# Altium footprint library LP_ECG-X02.PcbLib: 49 footprints (part 2 of 4)
Each footprint in its own frame and in the unit in brackets; x right, y up, seen from the top. Pads: shape width x height; smd on the part's side, far side on the other; paste and mask are expansions set on the pad; w line width, h text height; cw(c..) or ccw(c..) is an arc to the next point about the centre after c.
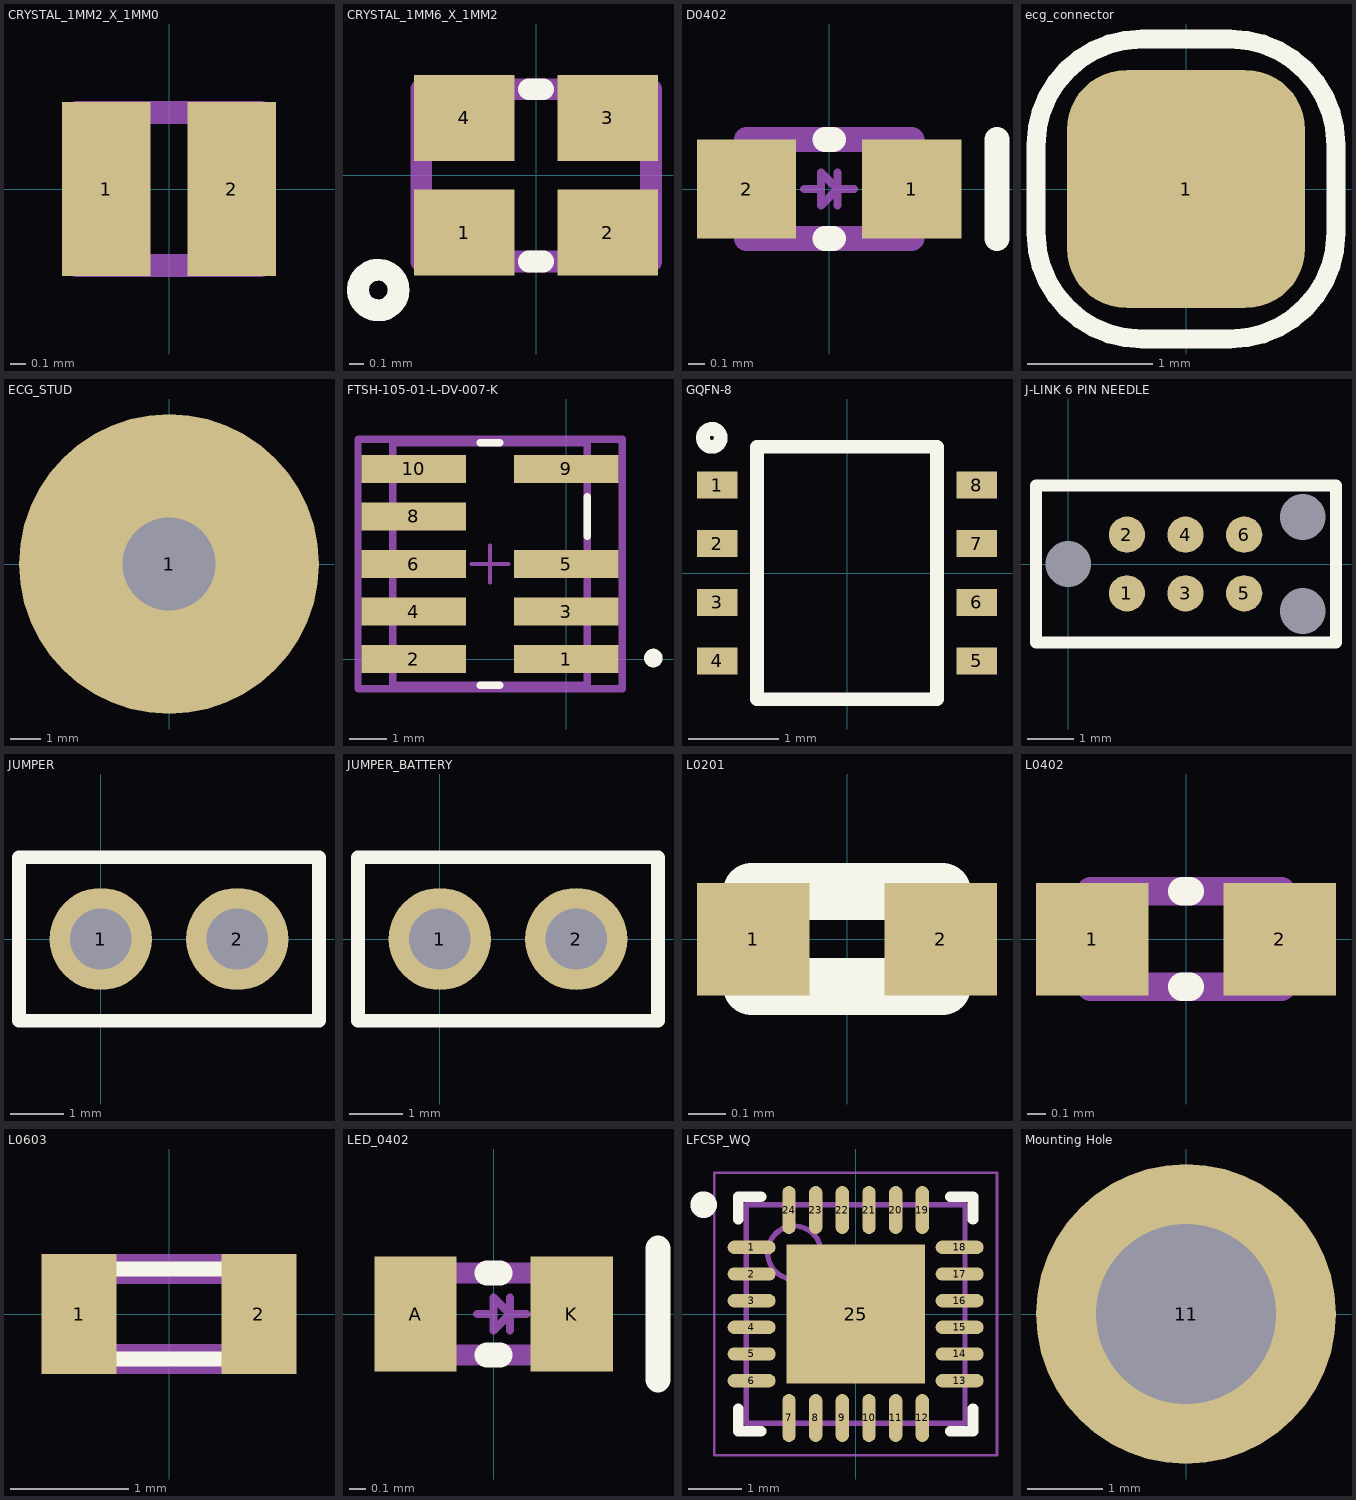
[diagram p1: the footprints below, top view; thin cyan lines are the x and y axes]

## CRYSTAL_1MM2_X_1MM0 [mm] "Crystal 1.2 x 1.0 x 0.35mm"
pads (2):
  rect 0.575x1.14 smd paste-0.5 mask+0.06: 1(-0.41,0) 2(0.41,0)
Mechanical 3:
  lines w0.152: -0.6,-0.5 0.6,-0.5 0.6,0.5 -0.6,0.5 -0.6,-0.5
3D body: height 0.35, standoff 0, extent -0.6,-0.5 0.6,0.5

## CRYSTAL_1MM6_X_1MM2 [mm] "1.6 x 1.2 x 0.35mm 4-pin crystal"
pads (4):
  rect 0.7x0.6 smd mask+0.036: 1(-0.5,-0.4) 2(0.5,-0.4) 3(0.5,0.4) 4(-0.5,0.4)
Top Overlay:
  circle w0.152: c-1.1,-0.8 r0.141
  lines w0.152: -0.05,-0.6 0.05,-0.6 ; -0.05,0.6 0.05,0.6
Mechanical 3:
  lines w0.152: -0.8,-0.6 -0.8,0.6 0.8,0.6 0.8,-0.6 -0.8,-0.6
3D body: height 0.35, standoff 0, extent -0.8,-0.6 0.8,0.6

## D0402 [mm] "1.0x0.6x0.5mm for RB751S-40L2"
pads (2):
  rect 0.6x0.6 smd mask+0.09: 1(0.5,0) 2(-0.5,0)
Top Overlay:
  lines w0.152: -0.025,-0.3 0.025,-0.3 ; -0.025,0.3 0.025,0.3 ; 1.016,-0.3 1.016,0.3
Mechanical 3:
  lines w0.05: -0.15,0 -0.05,0 ; 0.05,-0.1 0.05,0.1 ; 0.15,0 0.05,0 ; 0.05,0 -0.05,0.1 -0.05,-0.1 0.05,0
  lines w0.152: -0.5,-0.3 0.5,-0.3 0.5,0.3 -0.5,0.3 -0.5,-0.3
3D body: height 0.5, standoff 0, extent -0.5,-0.3 0.5,0.3

## ecg_connector [mm] "Surface Mount ECG Connector"
pads (1):
  rrect50% 1.905x1.905 smd: 1(0,0)
Top Overlay:
  lines w0.152: -1.2,-0.354 ccw(c-0.354,-0.354) -0.354,-1.2 0.354,-1.2 ccw(c0.354,-0.354) 1.2,-0.354 1.2,0.354 ccw(c0.354,0.354) 0.354,1.2 -0.354,1.2 ccw(c-0.354,0.354) -1.2,0.354 -1.2,-0.354

## ECG_STUD [mm] "996 STUD/EYELET COMBO"
pads (1):
  round 10 hole 3.1: 1(0,0)
3D body "996_Stud_Eyelet.STEP": height 2.86, standoff -6.31, extent -5.156,-5.156 5.156,5.156

## FTSH-105-01-L-DV-007-K [mm]
pads (9):
  rect 2.79x0.74 smd paste+0 mask+0: 1(0,0) 2(-4.07,0) 3(0,1.27) 4(-4.07,1.27) 5(0,2.54) 6(-4.07,2.54) 8(-4.07,3.81) 9(0,5.08) 10(-4.07,5.08)
Top Overlay:
  circle w0.25: c2.33,0.025 r0.125
  lines w0.2: -2.3,-0.7 -1.77,-0.7 ; -2.3,5.78 -1.77,5.78 ; 0.57,3.285 0.57,4.335
Top 3D Body:
  lines w0.2: -4.64,-0.7 0.57,-0.7 0.57,5.78 -4.64,5.78 -4.64,-0.7
Top Courtyard:
  lines w0.2: -5.565,-0.8 1.495,-0.8 1.495,5.88 -5.565,5.88 -5.565,-0.8
Top Assembly:
  lines w0.2: -5.565,-0.8 1.495,-0.8 1.495,5.88 -5.565,5.88 -5.565,-0.8
  text ".Designator" at -1.942,2.54 h0.51
Top Component Center:
  lines w0.1: -2.535,2.54 -1.535,2.54 ; -2.035,2.04 -2.035,3.04
3D body "Conn_Samtec_FTSH-105-01-L-DV-007-K_eec.STEP": height 0.25, standoff 0, extent -5.565,-0.8 1.495,5.88

## GQFN-8 [mm] "3.23MM X 3.28MM X 0.5MM"
height 0.5
pads (8):
  rect 0.45x0.3 smd: 1(-1.44,0.975) 2(-1.44,0.325) 3(-1.44,-0.325) 4(-1.44,-0.975) 5(1.44,-0.975) 6(1.44,-0.325) 7(1.44,0.325) 8(1.44,0.975)
Top Overlay:
  circle w0.152: c-1.5,1.5 r0.1
  lines w0.152: -1,-1.4 1,-1.4 1,1.4 -1,1.4 -1,-1.4
3D body "GQFN-8.STEP": height 0.5, standoff 0, extent -1.615,-1.64 1.615,1.64

## J-LINK 6 PIN NEEDLE [mil] "J-LINK 6 PIN NEEDLE ADAPTER"
pads (9):
  round 30.98 smd mask+0: 1(50,-25) 2(50,25) 3(100,-25) 4(100,25) 5(150,-25) 6(150,25)
  round 0 hole 39.02 unplated mask+0: 7(0,0) 7(200,-40) 7(200,40)
Top Overlay:
  lines w10: -27.56,-66.93 -27.56,66.93 228.35,66.93 228.35,-66.93 -27.56,-66.93

## JUMPER [mil]
pads (2):
  round 75 hole 45: 1(0,0) 2(100,0)
Top Overlay:
  lines w10: -60,-60 160,-60 160,60 -60,60 -60,-60
3D body "Jumper Closed.stp": height 343.31, standoff -120.08, extent -49.99,-50.09 150.01,49.91

## JUMPER_BATTERY [mil]
pads (2):
  round 75 hole 45: 1(0,0) 2(100,0)
Top Overlay:
  lines w10: -60,-60 -60,60 160,60 160,-60 -60,-60
3D body "Jumper Closed.stp": height 343.31, standoff -120.08, extent -49.99,-50.09 150.01,49.91

## L0201 [mm] "Experimental"
pads (2):
  rect 0.3x0.3 smd mask+0.036: 1(-0.25,0) 2(0.25,0)
Top Overlay:
  lines w0.152: -0.254,-0.127 -0.254,0.127 0.254,0.127 0.254,-0.127 -0.254,-0.127

## L0402 [mm]
pads (2):
  rect 0.6x0.6 smd: 1(-0.5,0) 2(0.5,0)
Top Overlay:
  lines w0.152: -0.02,-0.254 0.02,-0.254 ; -0.02,0.254 0.02,0.254
Mechanical 3:
  lines w0.152: -0.508,-0.254 0.508,-0.254 0.508,0.254 -0.508,0.254 -0.508,-0.254
3D body "C0402.stp": height 0.55, standoff 0, extent -0.5,-0.25 0.5,0.25

## L0603 [mil] "surface mount inductor 0603"
pads (2):
  rect 25x40 smd: 1(-30,0) 2(30,0)
Top Overlay:
  lines w5: -30,-15 30,-15 30,15 -30,15 -30,-15
Mechanical 3:
  lines w10: -30,-15 30,-15 30,15 -30,15 -30,-15
3D body "L0603.step": height 39.37, standoff 0, extent -31.49,-15.74 31.5,15.75

## LED_0402 [mm] "0402 w/ LED mark"
pads (2):
  rect 0.5x0.7 smd: A(-0.475,0) K(0.475,0)
Top Overlay:
  lines w0.152: -0.04,-0.25 0.04,-0.25 ; -0.04,0.25 0.04,0.25 ; 1,-0.4 1,0.4
Mechanical 3:
  lines w0.05: -0.1,0 0,0 ; 0.1,-0.1 0.1,0.1 ; 0.2,0 0.1,0 ; 0.1,0 0,-0.1 0,0.1 0.1,0
  lines w0.127: -0.5,-0.25 -0.5,0.25 0.5,0.25 0.5,-0.25 -0.5,-0.25
3D body "LED0402.stp": height 0.35, standoff 0, extent -0.5,-0.25 0.5,0.25

## LFCSP_WQ [mm] "QFN, 24-Leads, Body 4x4mm, Pitch 0.5mm, Thermal Pad 2.5x2.5mm, IPC Medium Density"
height 1
pads (25):
  oval 0.9x0.25 smd: 1(-1.95,1.25) 2(-1.95,0.75) 3(-1.95,0.25) 4(-1.95,-0.25) 5(-1.95,-0.75) 6(-1.95,-1.25) 13(1.95,-1.25) 14(1.95,-0.75) 15(1.95,-0.25) 16(1.95,0.25) 17(1.95,0.75) 18(1.95,1.25)
  oval 0.25x0.9 smd: 7(-1.25,-1.95) 8(-0.75,-1.95) 9(-0.25,-1.95) 10(0.25,-1.95) 11(0.75,-1.95) 12(1.25,-1.95) 19(1.25,1.95) 20(0.75,1.95) 21(0.25,1.95) 22(-0.25,1.95) 23(-0.75,1.95) 24(-1.25,1.95)
  rect 2.6x2.6 smd: 25(0,0)
Top Overlay:
  circle w0.25: c-2.85,2.05 r0.125
  lines w0.2: -2.2,-1.775 -2.2,-2.2 -1.775,-2.2 ; -2.2,1.775 -2.2,2.2 -1.775,2.2 ; 1.775,-2.2 2.2,-2.2 2.2,-1.775 ; 1.775,2.2 2.2,2.2 2.2,1.775
Mechanical 13:
  circle w0.1: c-1.15,1.15 r0.5
  lines w0.1: -2.05,-2.05 2.05,-2.05 2.05,2.05 -2.05,2.05 -2.05,-2.05
Mechanical 15:
  lines w0.05: -2.65,-2.65 2.65,-2.65 2.65,2.65 -2.65,2.65 -2.65,-2.65
  lines w0.1: -0.5,0 0.5,0 ; 0,-0.5 0,0.5
3D body: height 1, standoff 0, extent -2.05,-2.05 2.05,2.05

## Mounting Hole [mm] "M2 or 2-56 Mounting Hole"
pads (1):
  round 4 hole 2.4: 11(0,0)
3D body "92185A077.STEP": height 2.28, standoff -6.25, extent -1.778,-1.778 1.778,1.778
3D body "91115A956.STEP": height -0.77, standoff -18.23, extent -1.587,-1.833 1.588,1.833